# EAGLE library part FSUSB42 (library My Library)
FSUSB42 — Low-Power, Two-Port, High-Speed, USB2.0 (480Mbps) UART Switch DATASHEET <https://www.onsemi.com/pub/Collateral/FSUSB42-D.PDF> The FSUSB42 is a bi-directional, low -power, two-port, high-speed, USB2.0 switch. Configured as a doublepole, double-throw switch (DPDT) switch, it is optimized for switching between any combination of high-speed (480 Mbps) or Full-Speed (12 Mbps) sources.
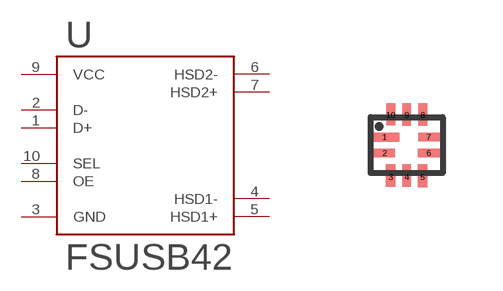
[diagram p2: symbol with the pads of FSUSB42UMX; footprint FSUSB42UMX]

Designator prefix U

## FSUSB42  [FSUSB42UMX]
1  D+
2  D-
3  GND
4  HSD1-
5  HSD1+
6  HSD2-
7  HSD2+
8  OE
9  VCC
10  SEL

## Footprint FSUSB42UMX (pad centres in mm)
smd 0.04 x 0.04: 1 -0.55,0.2; 2 -0.55,-0.2; 3 -0.4,-0.8; 4 0,-0.8; 5 0.4,-0.8; 6 0.55,-0.2; 7 0.55,0.2; 8 0.4,0.75; 9 0,0.75; 10 -0.4,0.75